# Altium footprint library PMSA003.PcbLib: 1 footprints
Each footprint in its own frame and in the unit in brackets; x right, y up, seen from the top. Pads: shape width x height; smd on the part's side, far side on the other; paste and mask are expansions set on the pad; w line width, h text height; cw(c..) or ccw(c..) is an arc to the next point about the centre after c.
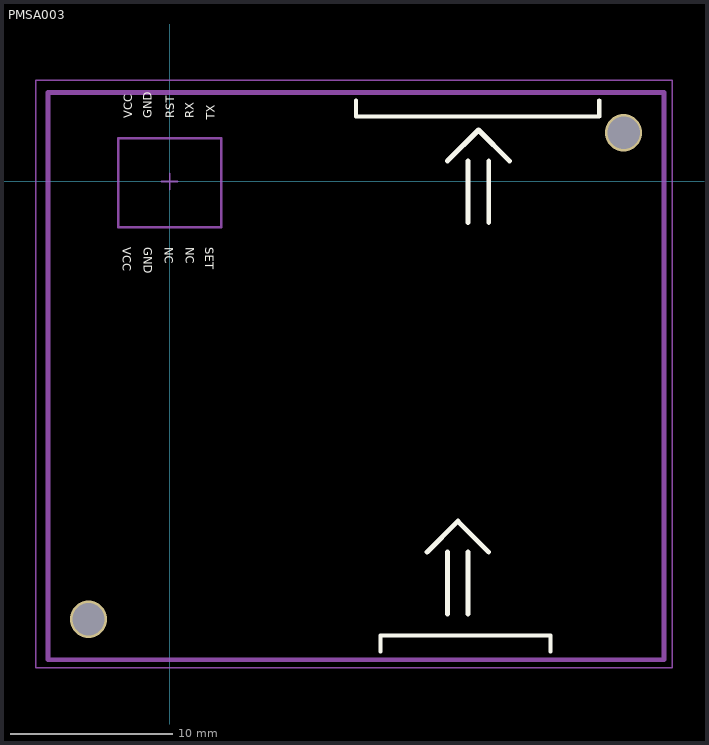
[diagram p0: the footprint, top view; thin cyan lines are the x and y axes]

## PMSA003 [mm] "PMSA003"
via 28,3 diameter 2.3 hole 2
via -5,-27 diameter 2.3 hole 2
Top Overlay:
  lines w0.254: 11.5,5 11.5,4 26.5,4 26.5,5 ; 13,-29 13,-28 23.5,-28 23.5,-29
  lines w0.305: 15.875,-22.86 17.78,-20.955 19.685,-22.86 ; 17.145,-26.67 17.145,-22.86 ; 17.145,1.27 19.05,3.175 20.955,1.27 ; 18.415,-26.67 18.415,-22.86 ; 18.415,-2.54 18.415,1.27 ; 19.685,-2.54 19.685,1.27
  text "SET" at 2.2,-4.05 h0.52
  text "GND" at -1.6,-4.05 h0.52
  text "VCC" at -2.9,-4.05 h0.52
  text "NC" at 1,-4.05 h0.52
  text "NC" at -0.3,-4.05 h0.52
  text "VCC" at -2.3,3.9 h0.52
  text "GND" at -1.1,3.9 h0.52
  text "RST" at 0.3,3.9 h0.52
  text "RX" at 1.5,3.9 h0.52
  text "TX" at 2.8,3.8 h0.52
Top Assembly:
  lines w0.1: -0.5,0 0,0 ; 0,-0.5 0,0 ; 0,0.5 0,0 ; 0.5,0 0,0
  lines w0.152: -3.175,2.667 3.175,2.667 ; -3.175,2.667 -3.175,-2.833 3.175,-2.833 ; -3.175,2.667 3.175,2.667 ; 3.175,-2.833 3.175,-2.833 ; 3.175,-2.833 3.175,2.667 ; 3.175,2.667 3.175,2.667
  lines w0.305: -7.5,-29.5 -7.5,5.5 30.5,5.5 30.5,-29.5 -7.5,-29.5
Top Courtyard:
  lines w0.1: -8.25,-30 -8.25,6.25 31,6.25 31,-30 -8.25,-30
3D body "Part1.SLDPRT": height 12, standoff 0, extent -7.5,-29.5 30.5,5.5
3D body "Fan.SLDPRT": height 12, standoff 5.5, extent 10.5,-14.5 30.5,5.5